# Altium schematic symbol library W25Q80DVSNIGTR.Schlib: 1 symbol
Pins are listed as number, name and electrical type; pins without a type are passive.

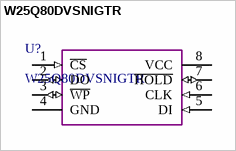
[diagram p0: symbol W25Q80DVSNIGTR]

## W25Q80DVSNIGTR
designator U?
pins: 1 ~{CS} (in), 2 DO (io), 3 ~{WP} (io), 4 GND (power), 5 DI (in), 6 CLK (in), 7 ~{HOLD} (io), 8 VCC (power)